# Altium footprint library mrsl.PcbLib: 218 footprints (part 13 of 14)
Each footprint in its own frame and in the unit in brackets; x right, y up, seen from the top. Pads: shape width x height; smd on the part's side, far side on the other; paste and mask are expansions set on the pad; w line width, h text height; cw(c..) or ccw(c..) is an arc to the next point about the centre after c.
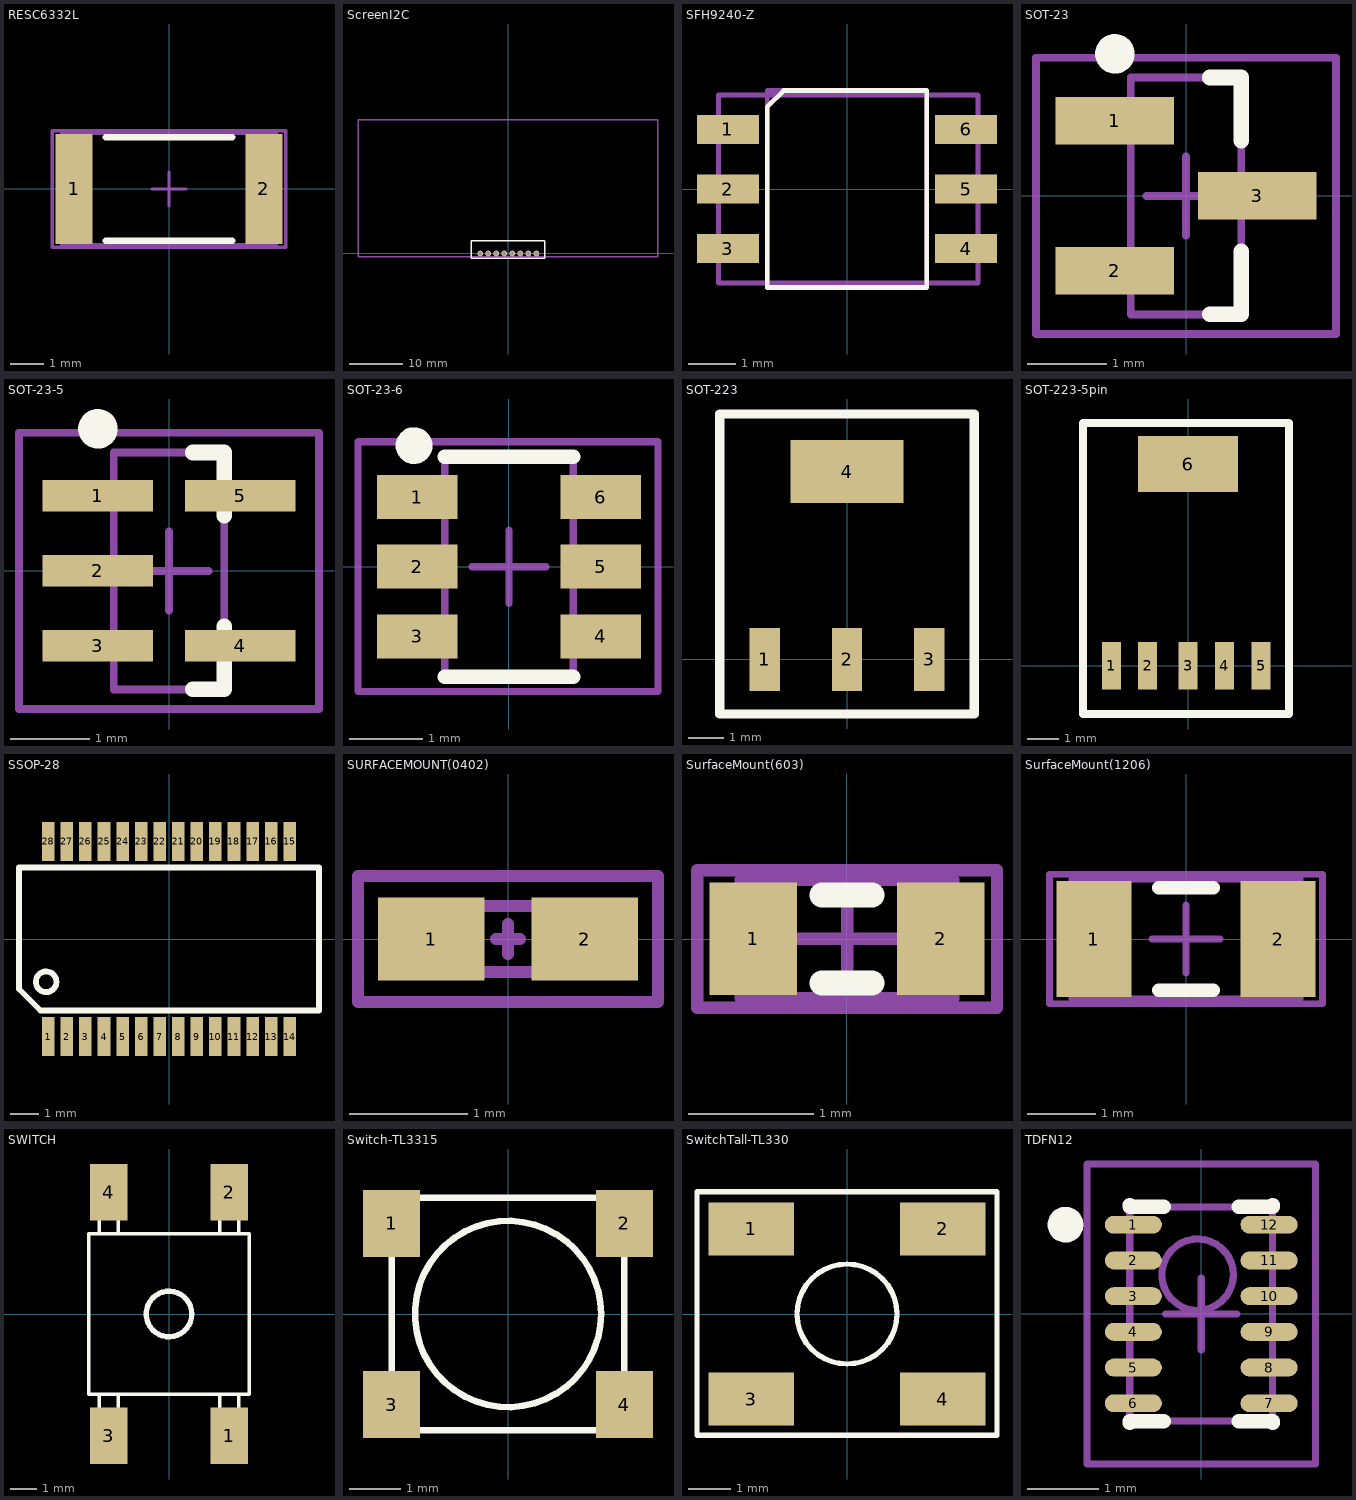
[diagram p12: the footprints below, top view; thin cyan lines are the x and y axes]

## RESC6332L [mm] "Chip Resistor, Body 6.3x3.2mm, IPC High Density"
height 0.9
pads (2):
  rect 1.1x3.3 smd: 1(-2.85,0) 2(2.85,0)
Top Overlay:
  lines w0.2: -1.9,-1.55 1.9,-1.55 ; -1.9,1.55 1.9,1.55
Mechanical 13:
  lines w0.1: -3.225,-1.675 -3.225,1.675 3.225,1.675 3.225,-1.675 -3.225,-1.675
Mechanical 15:
  lines w0.1: -0.5,0 0.5,0 ; 0,-0.5 0,0.5 ; -3.5,-1.75 -3.5,1.75 3.5,1.75 3.5,-1.75 -3.5,-1.75
3D body: height 0.9, standoff 0, extent -3.225,-1.675 3.225,1.675

## ScreenI2C [mm] "newhaven Display"
pads (8):
  round 1.1 hole 0.711: 1(-5.25,0) 2(-3.75,0) 3(-2.25,0) 4(-0.75,0) 5(0.75,0) 6(2.25,0) 7(3.75,0) 8(5.25,0)
Top Overlay:
  lines w0.254: 6.858,2.286 6.858,-0.889 -6.985,-0.889 -6.985,2.413 6.858,2.413
Mechanical 15:
  lines w0.254: -28.127,25.019 27.873,25.019 ; -28.067,-0.635 -28.067,25 ; -28,-0.635 28,-0.635 ; 27.94,-0.635 27.94,25

## SFH9240-Z [mil] "Reflective Interrupter with Schmitt-Trigger"
height 43.31
pads (6):
  rect 52x24 smd: 1(-100,50) 2(-100,0) 3(-100,-50) 4(100,-50) 5(100,0) 6(100,50)
Top Overlay:
  lines w3.94: -67,-82.68 67,-82.68 67,82.68 -53.32,82.68 -67,69 -67,-82.68
Mechanical 13:
  lines w3.94: -66.93,-82.68 66.93,-82.68 66.93,82.68 -66.93,82.68 -66.93,-82.68
Mechanical 15:
  lines w3.94: -108,-79 110,-79 110,79 -108,79 -108,-79
3D body: height 66.93, standoff 29.53, extent -59,-78 59,79

## SOT-23 [mm] "SOT23, 3-Leads, Body 3.0x2.5mm (max), Pitch 0.95mm, IPC Medium Density"
height 1.2
pads (3):
  rect 1.5x0.6 smd: 1(-0.9,0.95) 2(-0.9,-0.95) 3(0.9,0)
Top Overlay:
  circle w0.25: c-0.9,1.8 r0.125
  lines w0.2: 0.3,-1.5 0.7,-1.5 0.7,-0.7 ; 0.3,1.5 0.7,1.5 0.7,0.7
Mechanical 13:
  lines w0.1: -0.7,-1.5 -0.7,1.5 0.7,1.5 0.7,-1.5 -0.7,-1.5
Mechanical 15:
  lines w0.1: -0.5,0 0.5,0 ; 0,-0.5 0,0.5 ; -1.9,-1.75 -1.9,1.75 1.9,1.75 1.9,-1.75 -1.9,-1.75
3D body: height 1.2, standoff 0.01, extent -0.7,-1.5 0.7,1.5

## SOT-23-5 [mm] "A SOT-23 package with 5 pins"
pads (5):
  rect 1.4x0.4 smd: 1(-0.9,0.95) 2(-0.9,0) 3(-0.9,-0.95) 4(0.9,-0.95) 5(0.9,0.95)
Top Overlay:
  circle w0.25: c-0.9,1.8 r0.125
  lines w0.2: 0.3,-1.5 0.7,-1.5 0.7,-0.7 ; 0.3,1.5 0.7,1.5 0.7,0.7
Mechanical 13:
  lines w0.1: -0.7,-1.5 0.7,-1.5 0.7,1.5 -0.7,1.5 -0.7,-1.5
Mechanical 15:
  lines w0.1: -0.5,0 0.5,0 ; 0,-0.5 0,0.5 ; -1.9,-1.75 1.9,-1.75 1.9,1.75 -1.9,1.75 -1.9,-1.75
3D body: height 1.2, standoff 0.01, extent -0.7,-1.5 0.7,1.5

## SOT-23-6 [mm] "SOT23, 6-Leads, Body 3.0x2.5mm (max), Pitch 0.95mm, IPC Medium Density"
height 1.2
pads (6):
  rect 1.1x0.6 smd: 1(-1.25,0.95) 2(-1.25,0) 3(-1.25,-0.95) 4(1.25,-0.95) 5(1.25,0) 6(1.25,0.95)
Top Overlay:
  circle w0.25: c-1.293,1.651 r0.125
  lines w0.2: -0.875,-1.5 0.875,-1.5 ; -0.875,1.5 0.875,1.5
Mechanical 13:
  lines w0.1: -0.875,-1.5 0.875,-1.5 0.875,1.5 -0.875,1.5 -0.875,-1.5
Mechanical 15:
  lines w0.1: -0.5,0 0.5,0 ; 0,-0.5 0,0.5 ; -2.057,-1.702 2.032,-1.702 2.032,1.702 -2.057,1.702 -2.057,-1.702
3D body: height 1.45, standoff 0.01, extent -0.889,-1.5 0.864,1.5

## SOT-223 [mm]
pads (4):
  rect 0.85x1.75 smd: 1(-2.3,0) 2(0,0) 3(2.3,0)
  rect 3.15x1.75 smd: 4(0,5.25)
Top Overlay:
  lines w0.254: -3.556,-1.524 3.556,-1.524 3.556,6.858 -3.556,6.858 -3.556,-1.524

## SOT-223-5pin [mm] "sot223 tps73733"
pads (6):
  rect 0.6x1.5 smd: 1(-2.413,0) 2(-1.27,0) 3(0,0) 4(1.143,0) 5(2.3,0)
  rect 3.15x1.75 smd: 6(0,6.35)
Top Overlay:
  lines w0.254: -3.302,-1.524 3.175,-1.524 3.175,7.645 -3.302,7.645 -3.302,-1.524

## SSOP-28 [mm]
pads (28):
  rect 0.44x1.37 smd: 1(-4.225,-3.415) 2(-3.575,-3.415) 3(-2.925,-3.415) 4(-2.275,-3.415) 5(-1.625,-3.415) 6(-0.975,-3.415) 7(-0.325,-3.415) 8(0.325,-3.415) 9(0.975,-3.415) 10(1.625,-3.415) 11(2.275,-3.415) 12(2.925,-3.415) 13(3.575,-3.415) 14(4.225,-3.415) 15(4.225,3.415) 16(3.575,3.415) 17(2.925,3.415) 18(2.275,3.415) 19(1.625,3.415) 20(0.975,3.415) 21(0.325,3.415) 22(-0.325,3.415) 23(-0.975,3.415) 24(-1.625,3.415) 25(-2.275,3.415) 26(-2.925,3.415) 27(-3.575,3.415) 28(-4.225,3.415)
Top Overlay:
  circle w0.203: c-4.3,-1.5 r0.361
  lines w0.203: -5.25,-1.75 -5.25,2.5 5.25,2.5 5.25,-2.5 -4.5,-2.5 -5.25,-1.75

## SURFACEMOUNT(0402) [mm] "Chip Resistor; Body 1 x 0.5 mm (LxW typ)"
height 0.55
pads (2):
  rect 0.9x0.7 smd: 1(-0.65,0) 2(0.65,0)
Mechanical 13:
  lines w0.1: -0.864,-0.279 -0.864,0.279 0.889,0.279 0.889,-0.279 -0.864,-0.279
Mechanical 15:
  lines w0.1: -0.102,0 0.102,0 ; 0,-0.127 0,0.127 ; -1.27,-0.533 -1.27,0.533 1.27,0.533 1.27,-0.533 -1.27,-0.533

## SurfaceMount(603) [mm]
pads (2):
  rect 0.7x0.9 smd: 1(-0.75,0) 2(0.75,0)
Top Overlay:
  lines w0.2: -0.2,-0.35 0.2,-0.35 ; -0.2,0.35 0.2,0.35
Mechanical 13:
  lines w0.1: -0.85,-0.475 0.85,-0.475 0.85,0.475 -0.85,0.475 -0.85,-0.475
Mechanical 15:
  lines w0.1: -0.475,0 0.475,0 ; 0,-0.475 0,0.475 ; -1.2,-0.55 1.2,-0.55 1.2,0.55 -1.2,0.55 -1.2,-0.55
3D body: height 0.9, standoff 0, extent -0.85,-0.475 0.85,0.475

## SurfaceMount(1206) [mm]
pads (2):
  rect 1.1x1.7 smd: 1(-1.35,0) 2(1.35,0)
Top Overlay:
  lines w0.2: -0.4,-0.75 0.4,-0.75 ; -0.4,0.75 0.4,0.75
Mechanical 13:
  lines w0.1: -1.675,-0.875 -1.675,0.875 1.675,0.875 1.675,-0.875 -1.675,-0.875
Mechanical 15:
  lines w0.1: -0.5,0 0.5,0 ; 0,-0.5 0,0.5 ; -2,-0.95 -2,0.95 2,0.95 2,-0.95 -2,-0.95
3D body: height 2.54, standoff 0, extent -1.675,-0.875 1.675,0.875

## SWITCH [mm]
pads (4):
  rect 1.4x2.1 smd: 1(2.25,-4.55) 2(2.25,4.55) 3(-2.25,-4.55) 4(-2.25,4.55)
Top Overlay:
  circle w0.2: c0,0 r0.851
  lines w0.127: -2.6,-3.55 -2.6,-3 ; -2.6,3 -2.6,3.55 ; -1.9,-3.55 -1.9,-3 ; -1.9,3 -1.9,3.55 ; 1.9,-3.55 1.9,-3 ; 1.9,3 1.9,3.55 ; 2.6,-3.55 2.6,-3 ; 2.6,3 2.6,3.55 ; -3,-3 -3,3 3,3 3,-3 -3,-3

## Switch-TL3315 [mm] "Small SMD Tact Switch E-Switch TL3315"
height 2
pads (4):
  rect 1.1x1.3 smd: 1(-2.25,1.75) 2(2.25,1.75) 3(-2.25,-1.75) 4(2.25,-1.75)
Top Overlay:
  circle w0.127: c0,0 r1.8
  lines w0.127: -2.25,-2.25 2.25,-2.25 2.25,2.25 -2.25,2.25 -2.25,-2.25

## SwitchTall-TL330 [mil] "Small SMDTall Tact Switch E-Switch TL330"
height 78.74
pads (4):
  rect 80x50 smd: 1(-90,80) 2(90,80) 3(-90,-80) 4(90,-80)
Top Overlay:
  circle w5: c0,0 r47
  lines w5: -141,-114 -141,115 141,115 141,-114 -141,-114

## TDFN12 [mm] "power supervisor"
height 0.8
pads (12):
  oval 0.8x0.25 smd: 1(-0.95,1.25) 2(-0.95,0.75) 3(-0.95,0.25) 4(-0.95,-0.25) 5(-0.95,-0.75) 6(-0.95,-1.25) 7(0.95,-1.25) 8(0.95,-0.75) 9(0.95,-0.25) 10(0.95,0.25) 11(0.95,0.75) 12(0.95,1.25)
Top Overlay:
  circle w0.25: c-1.9,1.25 r0.125
  lines w0.2: -1,-1.525 -1,-1.5 -0.525,-1.5 ; -1,1.525 -1,1.5 -0.525,1.5 ; 0.525,-1.5 1,-1.5 1,-1.525 ; 0.525,1.5 1,1.5 1,1.525
Mechanical 13:
  circle w0.1: c-0.05,0.55 r0.5
  lines w0.1: -1,-1.5 1,-1.5 1,1.5 -1,1.5 -1,-1.5
Mechanical 15:
  lines w0.1: -0.5,0 0.5,0 ; 0,-0.5 0,0.5 ; -1.6,-2.1 1.6,-2.1 1.6,2.1 -1.6,2.1 -1.6,-2.1
3D body: height 0.8, standoff 0.08, extent -1,-1.5 1,1.5